# Altium footprint library PCB - CAPACITOR - ALUMINIUM - CAP ALSMD 6.6MM H7.7MM.PCBLIB: 1 footprints
Each footprint in its own frame and in the unit in brackets; x right, y up, seen from the top. Pads: shape width x height; smd on the part's side, far side on the other; paste and mask are expansions set on the pad; w line width, h text height; cw(c..) or ccw(c..) is an arc to the next point about the centre after c.
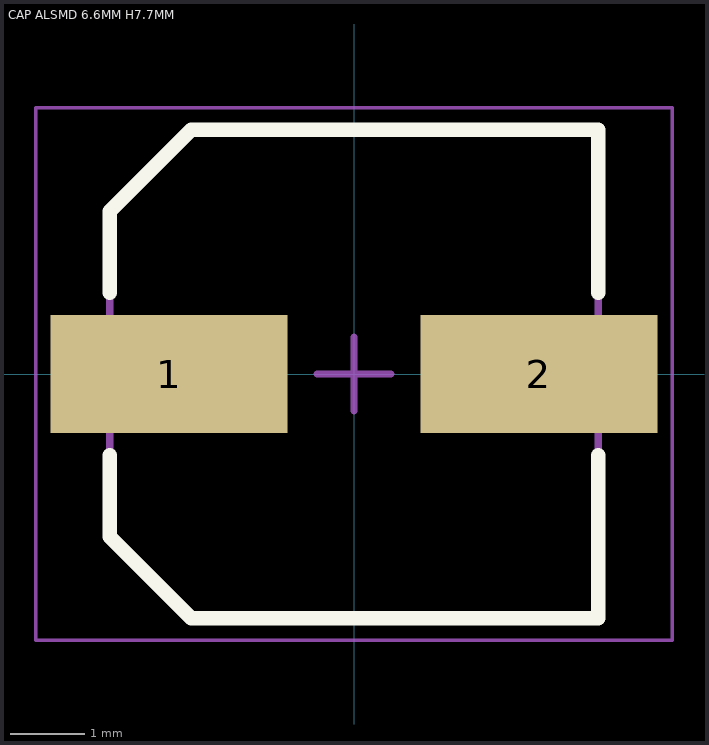
[diagram p0: the footprint, top view; thin cyan lines are the x and y axes]

## CAP ALSMD 6.6MM H7.7MM [mm] "Aluminum Electrolytic Capacitor, Body 6.60x6.60x7.70mm, IPC Low Density"
height 7.7
pads (2):
  rect 3.2x1.6 smd: 1(-2.5,0) 2(2.5,0)
Top Overlay:
  lines w0.2: -3.3,-1.1 -3.3,-2.2 -2.2,-3.3 3.3,-3.3 3.3,-1.1 ; -3.3,1.1 -3.3,2.2 -2.2,3.3 3.3,3.3 3.3,1.1
Mechanical 13:
  lines w0.1: -3.3,-2.2 -2.2,-3.3 3.3,-3.3 3.3,3.3 -2.2,3.3 -3.3,2.2 -3.3,-2.2
Mechanical 15:
  lines w0.05: -4.3,-3.6 -4.3,3.6 4.3,3.6 4.3,-3.6 -4.3,-3.6
  lines w0.1: -0.5,0 0.5,0 ; 0,-0.5 0,0.5
3D body "CAP ALSMD - 6.6 x 6.6 x 7.7.step": height 7.7, standoff 0, extent -3.6,-3.3 3.6,3.3